# Altium footprint library Intelligent_Agriculture_pcblib.PcbLib: 36 footprints (part 1 of 3)
Each footprint in its own frame and in the unit in brackets; x right, y up, seen from the top. Pads: shape width x height; smd on the part's side, far side on the other; paste and mask are expansions set on the pad; w line width, h text height; cw(c..) or ccw(c..) is an arc to the next point about the centre after c.
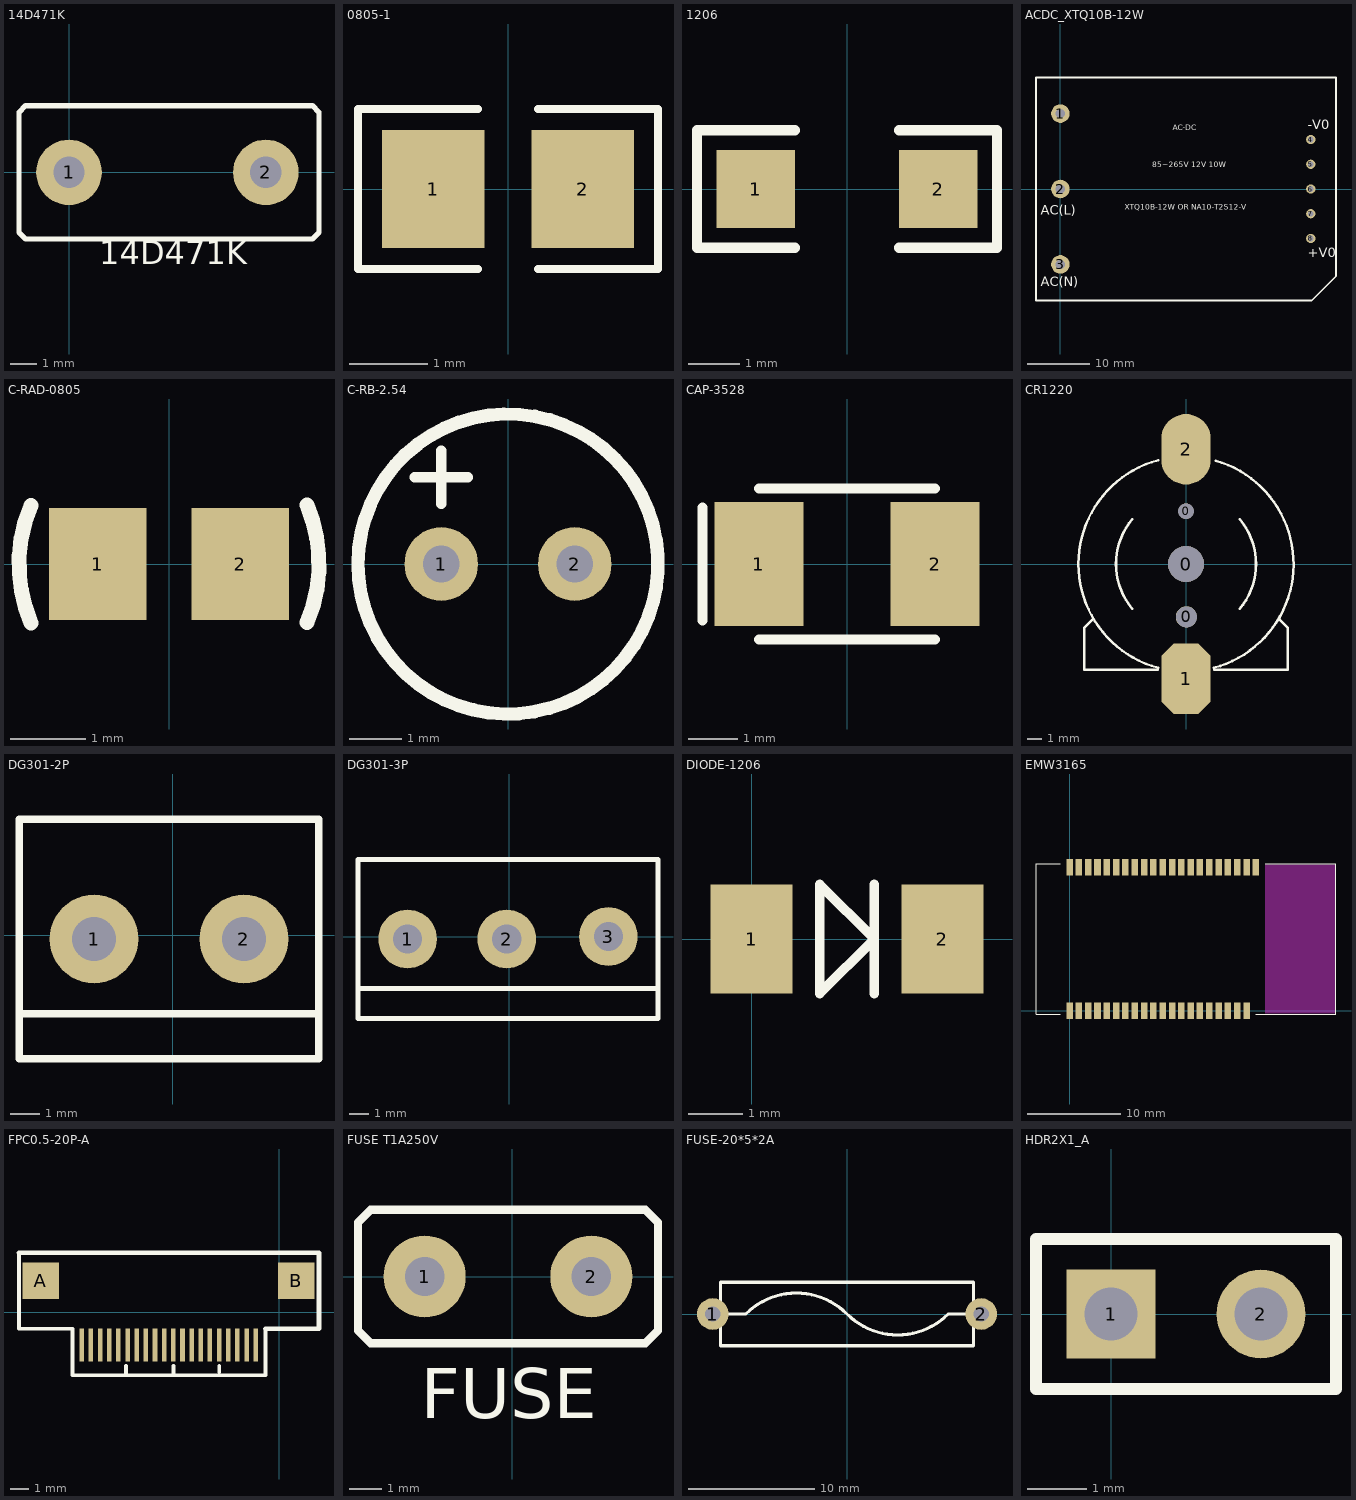
[diagram p0: the footprints below, top view; thin cyan lines are the x and y axes]

## 14D471K [mm]
pads (2):
  round 2.5 hole 1.2: 1(0,0) 2(7.5,0)
Top Overlay:
  lines w0.2: -0.762,2.54 9.271,2.54 9.525,2.286 9.525,-2.286 9.271,-2.54 7.493,-2.54 -1.651,-2.54 -1.905,-2.286 -1.905,2.286 -1.651,2.54 -0.127,2.54
  text "14D471K" at 1.143,-3.81 h1.52

## 0805-1 [mm]
pads (2):
  rect 1.3x1.5 smd: 1(-0.95,0) 2(0.95,0)
Top Overlay:
  lines w0.1: -0.381,-1.016 -1.905,-1.016 -1.905,1.016 -0.381,1.016 ; 0.381,-1.016 1.905,-1.016 1.905,1.016 0.381,1.016
3D body: height 1, standoff 0, extent -1.016,-0.508 1.016,0.508
3D body: height 1, standoff 0, extent 1.016,-0.508 1.143,0.508
3D body: height 1, standoff 0, extent -1.143,-0.508 -1.016,0.508

## 1206 [mil]
pads (2):
  rect 60x60 smd: 1(-70,0) 2(70,0)
Top Overlay:
  lines w7.87: -40,-45 -115,-45 -115,45 -40,45 ; 40,-45 115,-45 115,45 40,45
3D body: height 39.37, standoff 0, extent -75,-35 -55,35
3D body: height 39.37, standoff 0, extent 55,-35 75,35
3D body: height 39.37, standoff 0, extent -55,-35 55,35

## ACDC_XTQ10B-12W [mm]
pads (8):
  round 3 hole 1.5: 1(0,12.2) 2(0,0) 3(0,-12.2)
  round 1.5 hole 0.9: 4(40.5,8) 5(40.5,4) 6(40.5,0) 7(40.5,-4) 8(40.5,-8)
Top Overlay:
  lines w0.254: -3.937,2.159 -3.937,-18.034 ; -3.937,-18.034 40.64,-18.034 44.577,-14.097 44.577,18.034 -3.937,18.034 -3.937,17.399 -3.937,2.921 -3.937,-18.034
  text "85~265V 12V 10W" at 14.859,3.175 h1.52
  text "AC-DC" at 18.161,9.144 h1.52
  text "+V0" at 40.005,-11.049 h1.52
  text "-V0" at 40.005,9.652 h1.52
  text "AC(L)" at -3.175,-4.191 h1.52
  text "AC(N)" at -3.175,-15.748 h1.52
  text "XTQ10B-12W OR NA10-T2S12-V" at 10.414,-3.683 h1.52

## C-RAD-0805 [mm]
pads (2):
  rect 1.3x1.5 smd: 1(-0.95,0) 2(0.95,0)
Top Overlay:
  lines w0.2: -1.842,0.779 ccw(c0,0) -1.838,-0.789 ; 1.838,0.789 cw(c0,0) 1.842,-0.779
3D body: height 0.9, standoff 0, extent 0.889,-0.635 1.27,0.635
3D body: height 0.9, standoff 0, extent -1.27,-0.635 -0.889,0.635
3D body: height 0.8, standoff 0, extent -1.016,-0.635 1.016,0.635

## C-RB-2.54 [mm]
pads (2):
  round 1.4 hole 0.7: 1(-1.27,0) 2(1.27,0)
Top Overlay:
  lines w0.2: -1.778,1.651 -0.762,1.651 ; -1.27,1.143 -1.27,2.159
  lines w0.254: 2.85,0.158 ccw(c0,0) 2.851,0.13

## CAP-3528 [mm]
pads (2):
  rect 1.8x2.5 smd: 1(-1.778,0) 2(1.778,0)
Top Overlay:
  lines w0.2: -2.921,-1.143 -2.921,1.143 ; -1.778,1.524 1.778,1.524 ; -1.775,-1.524 1.778,-1.524
3D body: height 1, standoff 0, extent -1.905,-1.397 1.905,1.397
3D body: height 1.1, standoff 0, extent 1.524,-0.953 1.778,0.953

## CR1220 [mm]
pads (5):
  round 2.54 hole 2.54: 0(0,0)
  round 1.1 hole 1.1: 0(0,3.75)
  round 1.5 hole 1.5: 0(0.025,-3.75)
  oct 3.5x5 smd: 1(0,-8.128)
  oval 3.5x5 smd: 2(0,8.128)
Top Overlay:
  lines w0.178: -6.6,-3.9 -7.2,-4.5 -7.2,-7.5 -2,-7.5 ; -3.815,-3.169 cw(c0,0) -3.812,3.172 ; -1.963,-7.363 cw(c0,0) -7.62,0 cw(c0,0) -1.963,7.363 ; 1.963,-7.363 ccw(c0,0) 2.093,7.327 ; 2,-7.5 7.2,-7.5 7.2,-4.5 6.625,-3.925 ; 3.81,-3.175 ccw(c0,0) 3.812,3.172

## DG301-2P [mm]
pads (2):
  round 3 hole 1.5: 1(-2.667,-0.127) 2(2.413,-0.127)
Top Overlay:
  lines w0.254: -5.207,-2.667 4.953,-2.667 ; -5.207,-4.191 -4.667,-4.191 4.953,-4.191 4.953,-3.619 4.953,3.937 -5.207,3.937 -5.207,-4.191

## DG301-3P [mm]
pads (3):
  round 3 hole 1.5: 1(-5.207,-0.127) 2(-0.127,-0.127) 3(5.08,0)
Top Overlay:
  lines w0.254: -7.747,-2.667 7.62,-2.667 ; -7.747,-4.191 -7.747,3.937 7.62,3.937 7.62,-4.191 2.413,-4.191 -7.207,-4.191 -7.747,-4.191

## DIODE-1206 [mm]
pads (2):
  rect 1.5x2 smd: 1(0,0) 2(3.5,0)
Top Overlay:
  lines w0.178: 2.25,-1 2.25,1 ; 1.25,-1 2.25,0 1.25,1 1.25,-1

## EMW3165 [mm] "EMW365 wifi 模块"
pads (41):
  rect 0.7x1.8 smd: 1(0,0) 2(1,0) 3(2,0) 4(3,0) 5(4,0) 6(5,0) 7(6,0) 8(7,0) 9(8,0) 10(9,0) 11(10,0) 12(11,0) 13(12,0) 14(13,0) 15(14,0) 16(15,0) 17(16,0) 18(17,0) 19(18,0) 20(19,0) 21(19,15.4) 22(18,15.4) 23(17,15.4) 24(16,15.4) 25(15,15.4) 26(14,15.4) 27(13,15.4) 28(12,15.4) 29(11,15.4) 30(10,15.4) 31(9,15.4) 32(8,15.4) 33(7,15.4) 34(6,15.4) 35(5,15.4) 36(4,15.4) 37(3,15.4) 38(2,15.4) 39(1,15.4) 40(0,15.4) 41(20,15.4)
Top Overlay:
  lines w0.127: -1,-0.4 -3.6,-0.4 -3.6,15.8 -1,15.8 ; 20,-0.4 28.6,-0.4 28.6,15.8 21,15.8
Keep-Out Layer:
  rectangle: 21,-0.3 28.5,15.7

## FPC0.5-20P-A [mm]
pads (22):
  rect 0.25x1.8 smd: 1(-1.296,-1.767) 2(-1.796,-1.767) 3(-2.296,-1.767) 4(-2.796,-1.767) 5(-3.296,-1.767) 6(-3.796,-1.767) 7(-4.296,-1.767) 8(-4.796,-1.767) 9(-5.296,-1.767) 10(-5.796,-1.767) 11(-6.296,-1.767) 12(-6.796,-1.767) 13(-7.296,-1.767) 14(-7.796,-1.767) 15(-8.296,-1.767) 16(-8.796,-1.767) 17(-9.296,-1.767) 18(-9.796,-1.767) 19(-10.296,-1.767) 20(-10.796,-1.767)
  rect 2x2 smd: A(-13.045,1.722) B(0.922,1.722)
Top Overlay:
  lines w0.2: -14.224,3.258 -14.224,-0.889 -11.303,-0.889 -11.303,-3.429 -0.762,-3.429 -0.762,-0.889 ; -8.382,-3.421 -8.382,-2.921 ; -5.788,-3.292 -5.788,-2.921 ; -3.288,-3.267 -3.288,-2.921
  lines w0.254: -14.224,3.258 2.159,3.258 2.159,-0.889 -0.762,-0.889

## FUSE T1A250V [mm]
pads (2):
  round 2.5 hole 1.2: 1(-2.667,0) 2(2.413,0)
Top Overlay:
  lines w0.254: -4.699,-1.651 -4.318,-2.032 4.064,-2.032 4.445,-1.651 4.445,1.651 4.064,2.032 2.921,2.032 -4.318,2.032 -4.699,1.651 -4.699,-1.651
  text "FUSE" at -2.794,-4.318 h1.52

## FUSE-20*5*2A [mm] "20*5*2A 玻璃保险管"
pads (2):
  round 2.5 hole 1.2: 1(-10.6,0) 2(10.6,0)
Top Overlay:
  lines w0.254: -10,0 -8,0 cw(c-4,-4) 0,0 ccw(c4,4) 8,0 10,0 ; -10,-2.5 -10,2.5 10,2.5 10,-2.5 -10,-2.5

## HDR2X1_A [mm]
pads (2):
  rect 1.5x1.5 hole 0.9: 1(0,0)
  round 1.5 hole 0.9: 2(2.54,0)
Top Overlay:
  lines w0.2: -1.27,-1.27 3.81,-1.27 3.81,1.27 -1.27,1.27 -1.27,-1.27